# EAGLE library part FAN5336 (library MDB_HOME_kap)
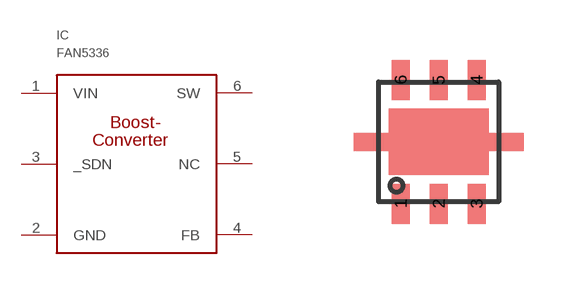
[diagram p5: symbol with the pads of MLP6; footprint MLP6]

Designator prefix IC

## FAN5336_MLP6  [MLP6]
1  VIN
2  GND
3  _SDN
4  FB
5  NC
6  SW

## Footprint MLP6 (pad centres in mm)
smd 0.45 x 1: 1 -0.95,-1.55; 2 0,-1.55; 3 0.95,-1.55; 4 0.95,1.55; 5 0,1.55; 6 -0.95,1.55